# Altium footprint library intan_rhs2116.PcbLib: 2 footprints
Each footprint in its own frame and in the unit in brackets; x right, y up, seen from the top. Pads: shape width x height; smd on the part's side, far side on the other; paste and mask are expansions set on the pad; w line width, h text height; cw(c..) or ccw(c..) is an arc to the next point about the centre after c.
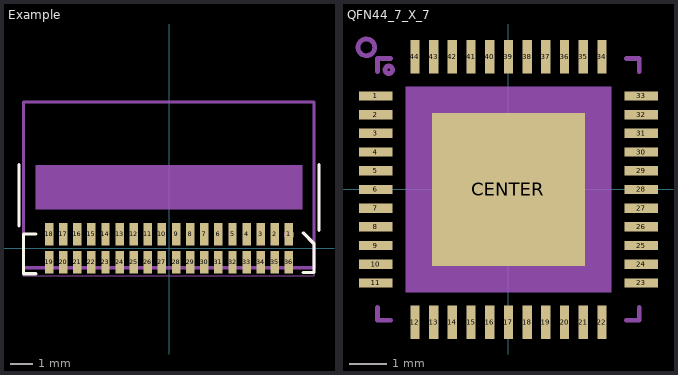
[diagram p0: the footprints below, top view; thin cyan lines are the x and y axes]

## Example [mil] "Example template footprint"
height 59.06
pads (36):
  rect 15x40 smd: 1(212.5,25) 2(187.5,25) 3(162.5,25) 4(137.5,25) 5(112.5,25) 6(87.5,25) 7(62.5,25) 8(37.5,25) 9(12.5,25) 10(-12.5,25) 11(-37.5,25) 12(-62.5,25) 13(-87.5,25) 14(-112.5,25) 15(-137.5,25) 16(-162.5,25) 17(-187.5,25) 18(-212.5,25) 19(-212.5,-25) 20(-187.5,-25) 21(-162.5,-25) 22(-137.5,-25) 23(-112.5,-25) 24(-87.5,-25) 25(-62.5,-25) 26(-37.5,-25) 27(-12.5,-25) 28(12.5,-25) 29(37.5,-25) 30(62.5,-25) 31(87.5,-25) 32(112.5,-25) 33(137.5,-25) 34(162.5,-25) 35(187.5,-25) 36(212.5,-25)
Top Overlay:
  lines w5.91: -265.75,39.37 -265.75,147.64 ; -235.83,-45.05 -257.87,-45.05 -257.87,24.95 -235.83,24.95 ; 237.87,-43.08 256.89,-43.08 256.89,7.91 237.87,26.92 ; 265.75,31.5 265.75,147.64
Top Fab Assembly - M13:
  circle w10: c212.6,23.62 r3.94
  lines w5.91: -257.87,-34.45 -257.87,258.86 256.89,258.86 256.89,-34.45 -257.87,-34.45
  text ".Designator" at -196.85,88.58 h39.37
Top Courtyard - M15:
  lines w1.97: -257.87,-49.21 -257.87,258.86 256.89,258.86 256.89,-49.21 -257.87,-49.21
Top Adhesive/Glue - M17:
  rectangle: -236.22,68.9 236.22,147.64
3D body "A79025-001.STEP": height 71, standoff 0.5, extent -257.5,-34.5 257.5,258.5

## QFN44_7_X_7 [mm]
pads (45):
  rect 0.9x0.25 smd: 1(-3.55,2.5) 2(-3.55,2) 3(-3.55,1.5) 4(-3.55,1) 5(-3.55,0.5) 6(-3.55,0) 7(-3.55,-0.5) 8(-3.55,-1) 9(-3.55,-1.5) 10(-3.55,-2) 11(-3.55,-2.5) 23(3.55,-2.5) 24(3.55,-2) 25(3.55,-1.5) 26(3.55,-1) 27(3.55,-0.5) 28(3.55,0) 29(3.55,0.5) 30(3.55,1) 31(3.55,1.5) 32(3.55,2) 33(3.55,2.5)
  rect 0.25x0.9 smd: 12(-2.5,-3.55) 13(-2,-3.55) 14(-1.5,-3.55) 15(-1,-3.55) 16(-0.5,-3.55) 17(0,-3.55) 18(0.5,-3.55) 19(1,-3.55) 20(1.5,-3.55) 21(2,-3.55) 22(2.5,-3.55) 34(2.5,3.55) 35(2,3.55) 36(1.5,3.55) 37(1,3.55) 38(0.5,3.55) 39(0,3.55) 40(-0.5,3.55) 41(-1,3.55) 42(-1.5,3.55) 43(-2,3.55) 44(-2.5,3.55)
  rect 4.1x4.1 smd: CENTER(0,0)
Fab Notes - M2:
  circle w0.127: c-3.8,3.8 r0.224
  circle w0.127: c-3.2,3.2 r0.1
  lines w0.127: -3.5,-3.15 -3.5,-3.5 -3.15,-3.5 ; -3.5,3.15 -3.5,3.5 -3.15,3.5 ; 3.15,-3.5 3.5,-3.5 3.5,-3.15 ; 3.15,3.5 3.5,3.5 3.5,3.15
Mechanical 12:
  rectangle: -2.75,-2.75 2.75,2.75
3D body "QFN-44-1EP_7x7mm_P0.5mm_EP5.15x5.15mm.step": height 0.77, standoff 0, extent -3.5,-3.5 3.5,3.5